# EAGLE library part LSI2064P (library lattice)
LATTICE PROGRAMMABLE DEVICE
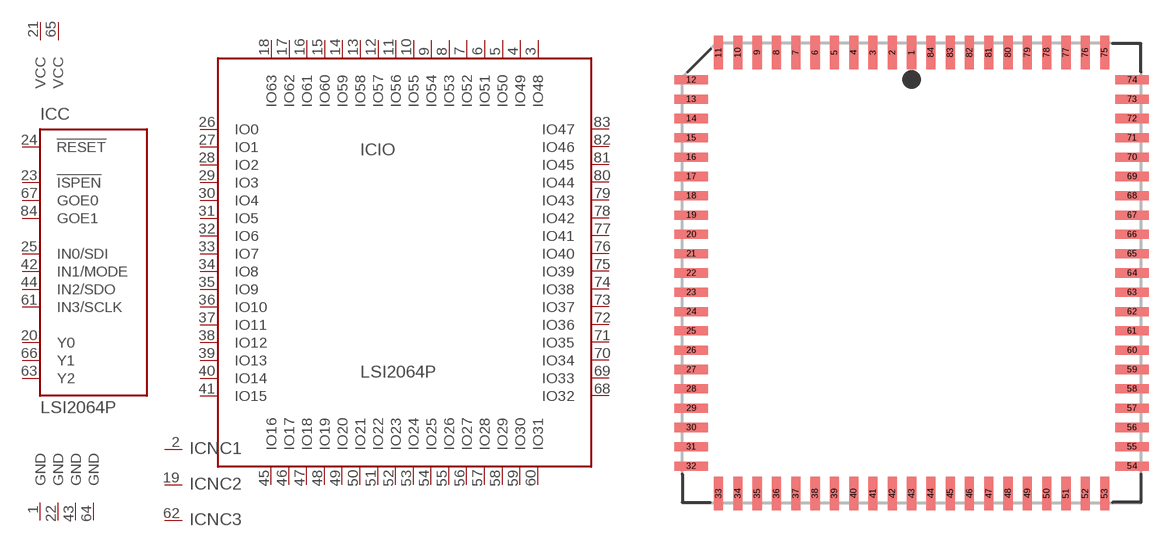
[diagram p6: symbol with the pads of PLCC84; footprint PLCC84]

Designator prefix IC; gates C=LS2064C P1=GND P2=GND P3=GND P4=GND P5=VCC P6=VCC NC1=NC NC2=NC NC3=NC IO=LSI2064

## LSI2064P (MPN: ISPLSI2064A-100LJN84; OC_FARNELL: 1571929; OC_NEWARK: 97M0537)  [PLCC84]
1  P1:GND  pwr
2  NC1:NC  nc
3  IO:IO48
4  IO:IO49
5  IO:IO50
6  IO:IO51
7  IO:IO52
8  IO:IO53
9  IO:IO54
10  IO:IO55
11  IO:IO56
12  IO:IO57
13  IO:IO58
14  IO:IO59
15  IO:IO60
16  IO:IO61
17  IO:IO62
18  IO:IO63
19  NC2:NC  nc
20  C:Y0  in
21  P5:VCC  pwr
22  P2:GND  pwr
23  C:!ISPEN  in
24  C:!RESET  in
25  C:IN0/SDI  in
26  IO:IO0
27  IO:IO1
28  IO:IO2
29  IO:IO3
30  IO:IO4
31  IO:IO5
32  IO:IO6
33  IO:IO7
34  IO:IO8
35  IO:IO9
36  IO:IO10
37  IO:IO11
38  IO:IO12
39  IO:IO13
40  IO:IO14
41  IO:IO15
42  C:IN1/MODE  in
43  P3:GND  pwr
44  C:IN2/SDO  in
45  IO:IO16
46  IO:IO17
47  IO:IO18
48  IO:IO19
49  IO:IO20
50  IO:IO21
51  IO:IO22
52  IO:IO23
53  IO:IO24
54  IO:IO25
55  IO:IO26
56  IO:IO27
57  IO:IO28
58  IO:IO29
59  IO:IO30
60  IO:IO31
61  C:IN3/SCLK  in
62  NC3:NC  nc
63  C:Y2  in
64  P4:GND  pwr
65  P6:VCC  pwr
66  C:Y1  in
67  C:GOE0  in
68  IO:IO32
69  IO:IO33
70  IO:IO34
71  IO:IO35
72  IO:IO36
73  IO:IO37
74  IO:IO38
75  IO:IO39
76  IO:IO40
77  IO:IO41
78  IO:IO42
79  IO:IO43
80  IO:IO44
81  IO:IO45
82  IO:IO46
83  IO:IO47
84  C:GOE1  in

## Footprint PLCC84 (pad centres in mm)
Plastic Leaded Chip Carrier
smd 0.6 x 2.2: 1 0,14.5; 2 -1.27,14.5; 3 -2.54,14.5; 4 -3.81,14.5; 5 -5.08,14.5; 6 -6.35,14.5; 7 -7.62,14.5; 8 -8.89,14.5; 9 -10.16,14.5; 10 -11.43,14.5; 11 -12.7,14.5; 33 -12.7,-14.5; 34 -11.43,-14.5; 35 -10.16,-14.5; 36 -8.89,-14.5; 37 -7.62,-14.5; 38 -6.35,-14.5; 39 -5.08,-14.5; 40 -3.81,-14.5; 41 -2.54,-14.5; 42 -1.27,-14.5; 43 0,-14.5; 44 1.27,-14.5; 45 2.54,-14.5; 46 3.81,-14.5; 47 5.08,-14.5; 48 6.35,-14.5; 49 7.62,-14.5; 50 8.89,-14.5; 51 10.16,-14.5; 52 11.43,-14.5; 53 12.7,-14.5; 75 12.7,14.5; 76 11.43,14.5; 77 10.16,14.5; 78 8.89,14.5; 79 7.62,14.5; 80 6.35,14.5; 81 5.08,14.5; 82 3.81,14.5; 83 2.54,14.5; 84 1.27,14.5
smd 2.2 x 0.6: 12 -14.5,12.7; 13 -14.5,11.43; 14 -14.5,10.16; 15 -14.5,8.89; 16 -14.5,7.62; 17 -14.5,6.35; 18 -14.5,5.08; 19 -14.5,3.81; 20 -14.5,2.54; 21 -14.5,1.27; 22 -14.5,0; 23 -14.5,-1.27; 24 -14.5,-2.54; 25 -14.5,-3.81; 26 -14.5,-5.08; 27 -14.5,-6.35; 28 -14.5,-7.62; 29 -14.5,-8.89; 30 -14.5,-10.16; 31 -14.5,-11.43; 32 -14.5,-12.7; 54 14.5,-12.7; 55 14.5,-11.43; 56 14.5,-10.16; 57 14.5,-8.89; 58 14.5,-7.62; 59 14.5,-6.35; 60 14.5,-5.08; 61 14.5,-3.81; 62 14.5,-2.54; 63 14.5,-1.27; 64 14.5,0; 65 14.5,1.27; 66 14.5,2.54; 67 14.5,3.81; 68 14.5,5.08; 69 14.5,6.35; 70 14.5,7.62; 71 14.5,8.89; 72 14.5,10.16; 73 14.5,11.43; 74 14.5,12.7